# Altium schematic symbol library kyocera-C-X7R-Series.SchLib: 2 symbols
Pins are listed as number, name and electrical type; pins without a type are passive.

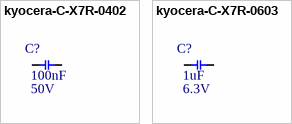
[diagram p0: symbols kyocera-C-X7R-0402 to kyocera-C-X7R-0603]

## kyocera-C-X7R-0402
designator C?, comment value 100nF  Value2: 50V  (hidden comment: 04025C104JAT2A)
SMD Capacitor; CapacitanceCode: 104; VoltageCode: 5; Dielectric: C; ToleranceCode: J; MaxThicknessCode: E; Size: 0402
footprint CX7R0402C (Chip Capacitor, 2-Leads, Body 1.00x0.50mm, IPC High Density)
pins: 1, 2

## kyocera-C-X7R-0603
designator C?, comment value 1uF  Value2: 6.3V  (hidden comment: 06036C105JAT2A)
SMD Capacitor; Dielectric: C; ToleranceCode: J; MaxThicknessCode: K; VoltageCode: 6; CapacitanceCode: 105; Size: 0603
footprint CX7R0603K (Chip Capacitor, 2-Leads, Body 1.60x0.81mm, IPC High Density)
pins: 1, 2